# Altium footprint library DPAK508P1524X483-3N.PcbLib: 1 footprints
Each footprint in its own frame and in the unit in brackets; x right, y up, seen from the top. Pads: shape width x height; smd on the part's side, far side on the other; paste and mask are expansions set on the pad; w line width, h text height; cw(c..) or ccw(c..) is an arc to the next point about the centre after c.
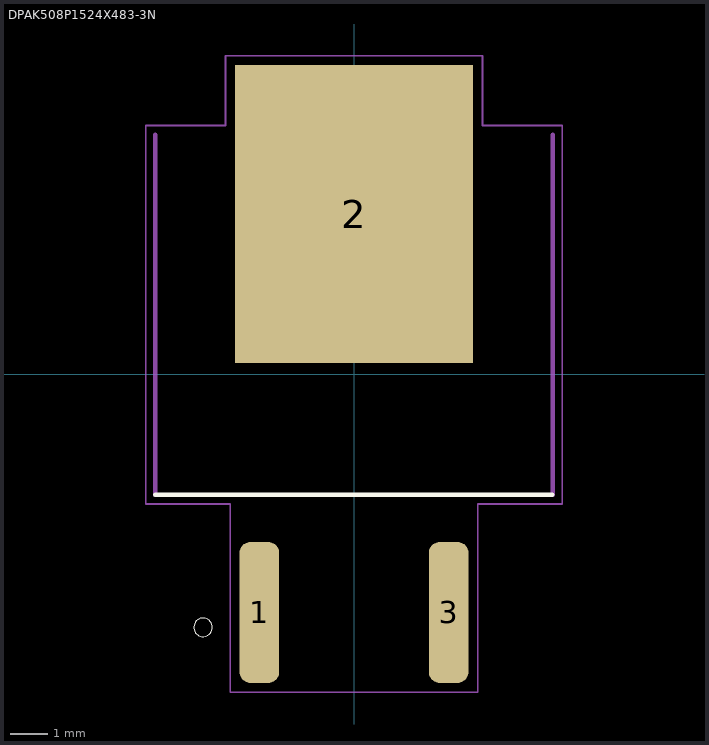
[diagram p0: the footprint, top view; thin cyan lines are the x and y axes]

## DPAK508P1524X483-3N [mm]
pads (3):
  rrect53% 1.06x3.78 smd: 1(-2.54,-6.4) 3(2.54,-6.4)
  rect 6.39x8 smd paste-5 mask+0: 2(0,4.29)
Top Overlay:
  circle w0: c-4.05,-6.8 r0.25
  lines w0.12: -5.34,-3.24 5.32,-3.24
Top Paste:
  region: 3.05,8.15 2.036,8.15 2.036,8.286 3.05,8.286
  region: -1.45,8.15 -4.242,8.15 -4.242,8.205 -1.45,8.205
  region: 3.05,0.557 2.024,0.557 2.024,2.65 3.05,2.65
  region: 0.8,0.568 -1.138,0.568 -1.138,2.65 0.8,2.65
  region: -1.45,0.565 -4.314,0.565 -4.314,2.65 -1.45,2.65
  region: 3.05,4.412 2.031,4.412 2.031,5.4 3.05,5.4
  region: 0.8,4.435 -1.126,4.435 -1.126,5.4 0.8,5.4
  region: -1.45,4.435 -4.295,4.435 -4.295,5.4 -1.45,5.4
  region: 0.8,8.15 -1.111,8.15 -1.111,8.194 0.8,8.194
Top Solder:
  region: 3.3,0.284 -4.687,0.284 -4.687,8.4 3.3,8.4
Mechanical 13:
  lines w0.12: -5.34,-3.24 -5.34,6.42 ; 5.34,-3.24 5.34,6.42
Mechanical 15:
  lines w0.05: -5.59,-3.49 -3.32,-3.49 -3.32,-8.54 3.32,-8.54 3.32,-3.49 5.59,-3.49 5.59,6.67 3.45,6.67 3.45,8.54 -3.45,8.54 -3.45,6.67 -5.59,6.67 -5.59,-3.49